# Altium footprint library D8xL12mm_Aluminum_Electrolytic_Capacitor_THT.PcbLib: 1 footprints
Each footprint in its own frame and in the unit in brackets; x right, y up, seen from the top. Pads: shape width x height; smd on the part's side, far side on the other; paste and mask are expansions set on the pad; w line width, h text height; cw(c..) or ccw(c..) is an arc to the next point about the centre after c.
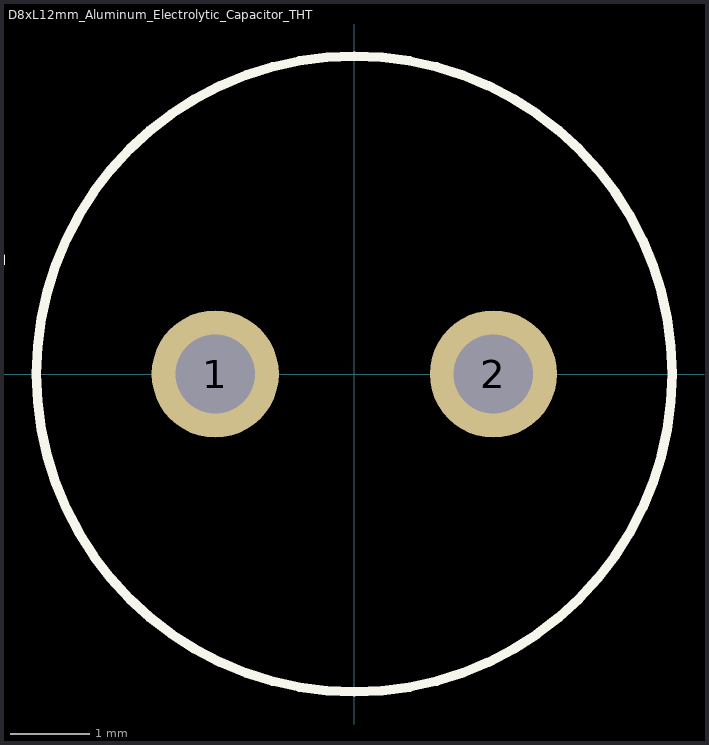
[diagram p0: the footprint, top view; thin cyan lines are the x and y axes]

## D8xL12mm_Aluminum_Electrolytic_Capacitor_THT [mm] "D8xL12mm_Aluminum_Electrolytic_Capacitor_THT"
pads (2):
  round 1.6 hole 1: 1(-1.75,0) 2(1.75,0)
Top Overlay:
  circle w0.12: c0,0 r4
  text "+" at -4.008,0.762 h2
Mechanical 1:
  circle w0.1: c0,0 r4
  text ".Designator" at 0,0.795 h1.52
Top Courtyard:
  text "+" at 1,-0.666 h2
3D body "C_Radial_D8.0mm_H11.5mm_P3.50mm.step": height 11, standoff -2, extent -4,-4 4,4